# Altium schematic symbol library YK4410303000G.SchLib: 1 symbol
Pins are listed as number, name and electrical type; pins without a type are passive.

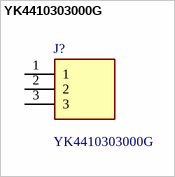
[diagram p0: symbol YK4410303000G]

## YK4410303000G
designator J?
3 Circuit 0.374" (9.50mm) Barrier Block Connector Screws with Captive Plate; Manufacturer_Name: Amphenol; Geometry.Height: 14.5mm; Mouser Part Number: 649-YK44103030J0G; Mouser Price/Stock: https://www.mouser.co.uk/ProductDetail/Amphenol-Anytek/YK4410303000G?qs=Mv7BduZupUjlRBXbQE4gEA%3D%3D; Manufacturer_Part_Number: YK4410303000G; Datasheet Link: http://www.anytek.com.tw/UserUpFiles/20170613/GymcEQdigCSS.pdf
footprint YK4410303000G
pins: 1, 2, 3